# Altium schematic symbol library LTV817A.Schlib: 1 symbol
Pins are listed as number, name and electrical type; pins without a type are passive.

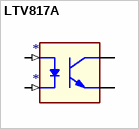
[diagram p0: symbol LTV817A]

## LTV817A
designator *
pins: 1 ANODE (in), 2 CATHODE (in), 3 E (oe), 4 C (oc)